# EAGLE library part OPA350UA_2K5 (library OPA350UA_2K5)
High-Speed, Single-Supply, Rail-to-Rail Operational Amplifiers MicroAmplifier Series Source: Datasheet <http://www.ti.com/lit/gpn/OPA350>
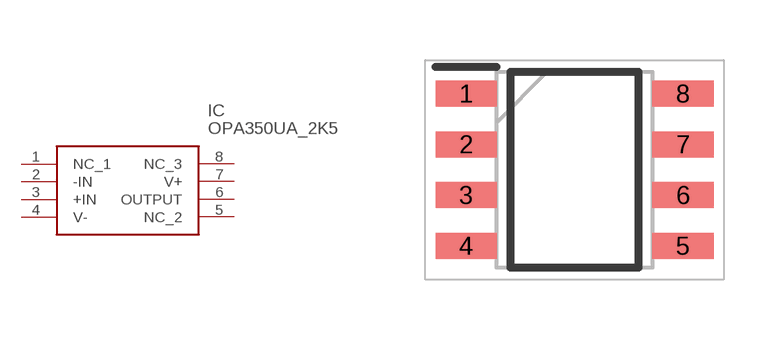
[diagram p0: symbol with the pads of SOIC127P600X175-8N; footprint SOIC127P600X175-8N]

Designator prefix IC

## OPA350UA_2K5 (Arrow_Part_Number: OPA350UA/2K5; Arrow_Price-Stock: https://www.arrow.com/en/products/opa350ua2k5/texas-instruments?region=nac; Description: High-Speed, Single-Supply, Rail-to-Rail Operational Amplifiers MicroAmplifier Series; Height: 1.75mm; Manufacturer_Name: Texas Instruments; Manufacturer_Part_Number: OPA350UA/2K5; Mouser_Part_Number: 595-OPA350UA/2K5; Mouser_Price-Stock: https://www.mouser.co.uk/ProductDetail/Texas-Instruments/OPA350UA-2K5?qs=7nS3%252BbEUL6sT6%2Fm03FwKkQ%3D%3D)  [SOIC127P600X175-8N]
1  NC_1
2  -IN
3  +IN
4  V-
5  NC_2
6  OUTPUT
7  V+
8  NC_3

## Footprint SOIC127P600X175-8N (pad centres in mm)
8-SOIC (0.154", 3.90mm Width)
smd 1.528 x 0.65: 1 -2.711,1.905; 2 -2.711,0.635; 3 -2.711,-0.635; 4 -2.711,-1.905; 5 2.711,-1.905; 6 2.711,-0.635; 7 2.711,0.635; 8 2.711,1.905